# EAGLE library part RESISTOR_ARRAY-8 (library ASL)
Chip Resistor Array 4 Single Resistor Source: http://www.ctscorp.com/components/Datasheets/CTSChipArrayDs.pdf
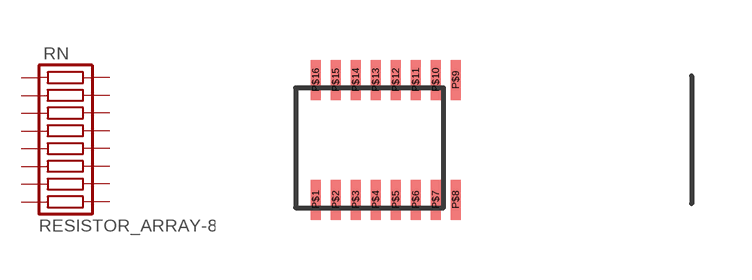
[diagram p6: symbol with the pads of EXB-2HV271JV; footprint EXB-2HV271JV]

Designator prefix RN

## RESISTOR_ARRAY-8 (OC_FARNELL: unknown; OC_NEWARK: unknown)  [EXB-2HV271JV]
P$1  1  pas
P$2  2  pas
P$3  3  pas
P$4  4  pas
P$5  5  pas
P$6  6  pas
P$7  7  pas
P$8  8  pas
P$9  9  pas
P$10  10  pas
P$11  11  pas
P$12  12  pas
P$13  13  pas
P$14  14  pas
P$15  15  pas
P$16  16  pas

## Footprint EXB-2HV271JV (pad centres in mm)
Chip Resistor Array Source: http://www.ctscorp.com/components/Datasheets/CTSChipArrayDs.pdf
smd 0.25 x 1: P$1 0,0; P$2 0.5,0; P$3 1,0; P$4 1.5,0; P$5 2,0; P$6 2.5,0; P$7 3,0; P$8 3.5,0; P$9 3.5,3; P$10 3,3; P$11 2.5,3; P$12 2,3; P$13 1.5,3; P$14 1,3; P$15 0.5,3; P$16 0,3